# Altium schematic symbol library IC_ISSI_IS25LP128-JLLE_eec.SchLib: 1 symbol
Pins are listed as number, name and electrical type; pins without a type are passive.

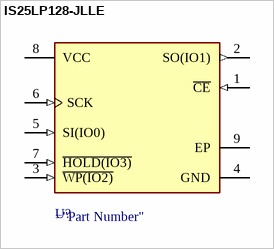
[diagram p0: symbol IS25LP128-JLLE]

## IS25LP128-JLLE
designator U?  (value not drawn)
pins: 1 ~{CE} (in), 2 SO(IO1) (out), 3 ~{WP(IO2)} (in), 4 GND (power), 5 SI(IO0) (in), 6 SCK (in), 7 ~{HOLD(IO3)} (in), 8 VCC (power), 9 EP